# Altium footprint library PcbLib.PcbLib: 42 footprints (part 3 of 3)
Each footprint in its own frame and in the unit in brackets; x right, y up, seen from the top. Pads: shape width x height; smd on the part's side, far side on the other; paste and mask are expansions set on the pad; w line width, h text height; cw(c..) or ccw(c..) is an arc to the next point about the centre after c.
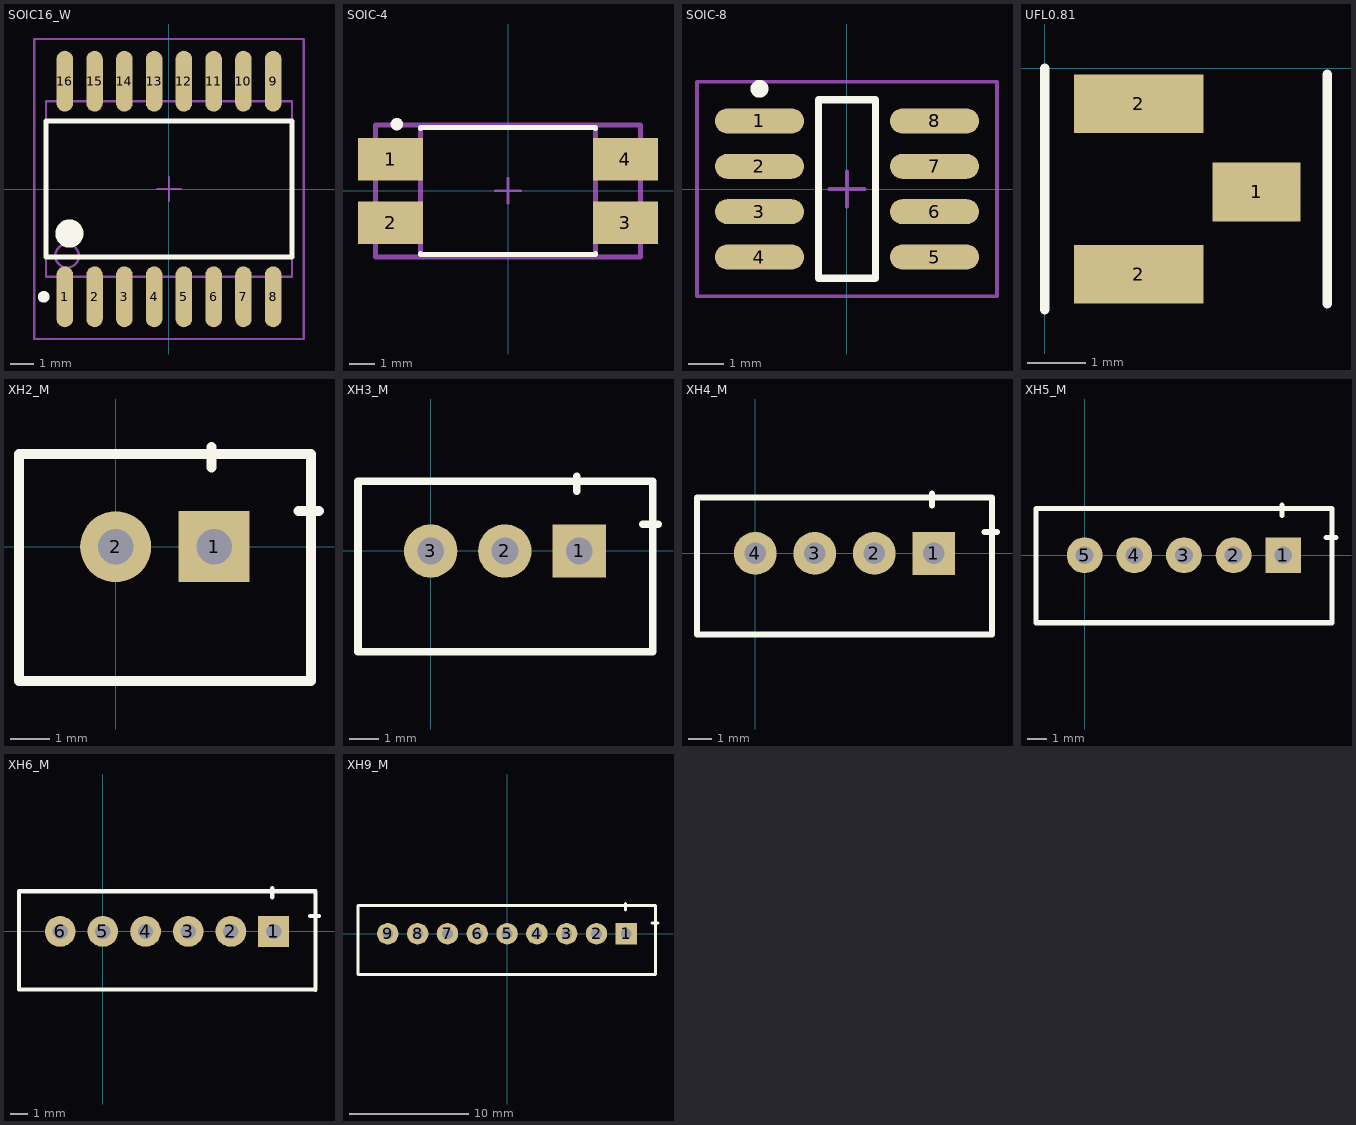
[diagram p2: the footprints below, top view; thin cyan lines are the x and y axes]

## SOIC16_W [mm]
pads (16):
  oval 0.7x2.6 smd: 1(-4.441,-4.598) 2(-3.171,-4.598) 3(-1.901,-4.598) 4(-0.631,-4.598) 5(0.639,-4.598) 6(1.909,-4.598) 7(3.179,-4.598) 8(4.449,-4.598) 9(4.449,4.602) 10(3.179,4.602) 11(1.909,4.602) 12(0.639,4.602) 13(-0.631,4.602) 14(-1.901,4.602) 15(-3.171,4.602) 16(-4.441,4.602)
Top Overlay:
  circle w0.6: c-4.246,-1.898 r0.3
  circle w0.25: c-5.341,-4.598 r0.125
  lines w0.2: -5.246,-2.898 -5.246,2.902 5.254,2.902 5.254,-2.898 -5.246,-2.898
Mechanical 13:
  circle w0.1: c-4.346,-2.848 r0.5
  lines w0.1: -5.246,-3.748 -5.246,3.752 5.254,3.752 5.254,-3.748 -5.246,-3.748
Mechanical 15:
  lines w0.1: -0.496,0.002 0.504,0.002 ; 0.004,-0.498 0.004,0.502 ; -5.746,-6.398 -5.746,6.402 5.754,6.402 5.754,-6.398 -5.746,-6.398
3D body "so16w.STEP": height 3.5, standoff 0, extent -5.1,-5.15 5.1,5.15

## SOIC-4 [mm]
pads (4):
  rect 2.6x1.7 smd paste+0 mask+0: 1(-4.699,1.27) 2(-4.699,-1.27) 3(4.699,-1.27) 4(4.699,1.27)
Top Overlay:
  circle w0.25: c-4.445,2.667 r0.125
  lines w0.2: -3.5,-2.495 -3.5,-2.54 3.5,-2.54 3.5,-2.495 ; -3.5,2.495 -3.5,2.54 3.5,2.54 3.5,2.495
Top 3D Body:
  lines w0.2: -3.5,-2.54 3.5,-2.54 3.5,2.54 -3.5,2.54 -3.5,-2.54
Top Courtyard:
  lines w0.2: -5.3,-2.64 5.3,-2.64 5.3,2.64 -5.3,2.64 -5.3,-2.64
Top Assembly:
  lines w0.2: -5.3,-2.64 5.3,-2.64 5.3,2.64 -5.3,2.64 -5.3,-2.64
Board:
  lines w0.1: -0.5,0 0.5,0 ; 0,-0.5 0,0.5
3D body "Trans_SHARP_PC817XNNIP0F_eec.STEP": height 0.25, standoff 0, extent -5.3,-2.64 5.3,2.64

## SOIC-8 [mm]
pads (8):
  oval 2.5x0.7 smd: 1(-2.446,1.908) 2(-2.446,0.638) 3(-2.446,-0.632) 4(-2.446,-1.902) 5(2.454,-1.902) 6(2.454,-0.632) 7(2.454,0.638) 8(2.454,1.908)
Top Overlay:
  circle w0.25: c-2.446,2.808 r0.125
  lines w0.2: -0.796,-2.497 -0.796,2.503 0.804,2.503 0.804,-2.497 -0.796,-2.497
Mechanical 15:
  lines w0.1: -0.496,0.003 0.504,0.003 ; 0.004,-0.497 0.004,0.503 ; -4.196,-2.997 -4.196,3.003 4.204,3.003 4.204,-2.997 -4.196,-2.997
3D body "User Library-SOIC-8-1.STEP": height 1.75, standoff 0, extent -3.014,-2.462 2.986,2.438

## UFL0.81 [mm]
height 6.062
pads (3):
  rect 1.5x1 smd: 1(3.6,-2.1)
  rect 2.2x1 smd: 2(1.6,-3.5) 2(1.6,-0.6)
Top Overlay:
  lines w0.16: 0,-4.1 0,0 ; 4.8,-4 4.8,-0.1

## XH2_M [mm] "XH Connector 2Pin Male"
pads (2):
  rect 1.8x1.8 hole 0.9: 1(2.5,0)
  round 1.8 hole 0.9: 2(0,0)
Top Overlay:
  lines w0.254: 2.427,2.008 2.427,2.523 ; 4.642,0.903 5.157,0.903 ; -2.45,-3.4 -2.45,2.35 4.95,2.35 4.95,-3.4 -2.45,-3.4
3D body "JST B2B-XH-A.STEP": height 7, standoff -3.4, extent -2.466,-3.318 4.934,2.432

## XH3_M [mm] "XH Connector 3Pin Male"
pads (3):
  rect 1.8x1.8 hole 0.9: 1(5,0)
  round 1.8 hole 0.9: 2(2.5,0) 3(0,0)
Top Overlay:
  lines w0.254: 4.927,2.008 4.927,2.523 ; 7.142,0.903 7.657,0.903 ; -2.45,-3.4 -2.45,2.35 7.483,2.35 7.483,-3.4 -2.45,-3.4
3D body "jst-b3b-xh-a.STEP": height 7, standoff -3.4, extent -2.454,-3.402 7.446,2.348

## XH4_M [mm] "XH Connector 4Pin Male"
pads (4):
  rect 1.8x1.8 hole 0.9: 1(7.5,0)
  round 1.8 hole 0.9: 2(5,0) 3(2.5,0) 4(0,0)
Top Overlay:
  lines w0.254: 7.427,2.008 7.427,2.523 ; 9.642,0.903 10.157,0.903 ; 9.95,-3.411 9.95,2.339 ; 9.95,-3.4 -2.45,-3.4 -2.45,2.35 9.95,2.35
3D body "jst-b4b-xh-a-1.STEP": height 7, standoff -3.4, extent -2.454,-3.393 9.946,2.357

## XH5_M [mm] "XH Connector 5Pin Male"
pads (5):
  rect 1.8x1.8 hole 0.9: 1(10,0)
  round 1.8 hole 0.9: 2(7.5,0) 3(5,0) 4(2.5,0) 5(0,0)
Top Overlay:
  lines w0.254: 9.927,2.008 9.927,2.523 ; 12.142,0.903 12.657,0.903 ; 12.45,-3.4 -2.45,-3.4 -2.45,2.35 12.45,2.35 ; 12.453,-3.405 12.453,2.345
3D body "JST B5B-XH-A.STEP": height 7, standoff -3.4, extent -2.444,-3.374 12.456,2.376

## XH6_M [mm]
pads (6):
  rect 1.8x1.8 hole 0.9: 1(10,0.001)
  round 1.8 hole 0.9: 2(7.5,0.001) 3(5,0.001) 4(2.5,0.001) 5(0,0.001) 6(-2.5,0)
Top Overlay:
  lines w0.254: 9.927,2.009 9.927,2.524 ; 12.142,0.904 12.657,0.904 ; 12.45,-3.399 -4.908,-3.399 -4.908,2.351 12.45,2.351 ; 12.453,-3.404 12.453,2.346
3D body "jst-b6b-xh-a.STEP": height 7, standoff -3.4, extent -4.908,-3.418 12.492,2.332

## XH9_M [mm]
pads (9):
  rect 1.8x1.8 hole 0.9: 1(10,0)
  round 1.8 hole 0.9: 2(7.5,0) 3(5,0) 4(2.5,0) 5(0,0) 6(-2.5,0) 7(-5,0) 8(-7.5,0) 9(-10,0)
Top Overlay:
  lines w0.254: -12.5,-3.4 -12.5,2.35 ; -12.485,-3.4 12.45,-3.4 ; -12.474,2.35 12.45,2.35 ; 9.927,2.008 9.927,2.523 ; 12.142,0.903 12.657,0.903 ; 12.453,-3.405 12.453,2.345
3D body "B9B-XH-A.STEP": height 7, standoff -3.4, extent -12.514,-3.532 12.386,2.218